# Altium footprint library TC65i.PcbLib: 1 footprints
Each footprint in its own frame and in the unit in brackets; x right, y up, seen from the top. Pads: shape width x height; smd on the part's side, far side on the other; paste and mask are expansions set on the pad; w line width, h text height; cw(c..) or ccw(c..) is an arc to the next point about the centre after c.
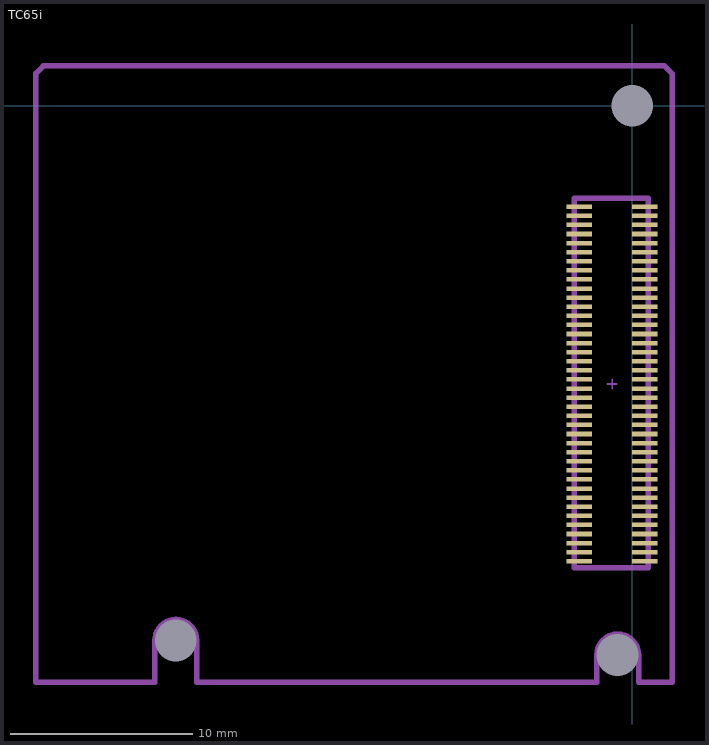
[diagram p0: the footprint, top view; thin cyan lines are the x and y axes]

## TC65i [mm]
pads (84):
  round 0 hole 2.3 unplated: 0(0,0) 1(-25.1,-29.4) 1(-0.8,-30.2)
  rect 1.4x0.25 smd: 1(-2.9,-25.05) 2(-2.9,-24.55) 3(-2.9,-24.05) 4(-2.9,-23.55) 5(-2.9,-23.05) 6(-2.9,-22.55) 7(-2.9,-22.05) 8(-2.9,-21.55) 9(-2.9,-21.05) 10(-2.9,-20.55) 11(-2.9,-20.05) 12(-2.9,-19.55) 13(-2.9,-19.05) 14(-2.9,-18.55) 15(-2.9,-18.05) 16(-2.9,-17.55) 17(-2.9,-17.05) 18(-2.9,-16.55) 19(-2.9,-16.05) 20(-2.9,-15.55) 21(-2.9,-15.05) 22(-2.9,-14.55) 23(-2.9,-14.05) 24(-2.9,-13.55) 25(-2.9,-13.05) 26(-2.9,-12.55) 27(-2.9,-12.05) 28(-2.9,-11.55) 29(-2.9,-11.05) 30(-2.9,-10.55) 31(-2.9,-10.05) 32(-2.9,-9.55) 33(-2.9,-9.05) 34(-2.9,-8.55) 35(-2.9,-8.05) 36(-2.9,-7.55) 37(-2.9,-7.05) 38(-2.9,-6.55) 39(-2.9,-6.05) 40(-2.9,-5.55) 41(0.7,-5.55) 42(0.7,-6.05) 43(0.7,-6.55) 44(0.7,-7.05) 45(0.7,-7.55) 46(0.7,-8.05) 47(0.7,-8.55) 48(0.7,-9.05) 49(0.7,-9.55) 50(0.7,-10.05) 51(0.7,-10.55) 52(0.7,-11.05) 53(0.7,-11.55) 54(0.7,-12.05) 55(0.7,-12.55) 56(0.7,-13.05) 57(0.7,-13.55) 58(0.7,-14.05) 59(0.7,-14.55) 60(0.7,-15.05) 61(0.7,-15.55) 62(0.7,-16.05) 63(0.7,-16.55) 64(0.7,-17.05) 65(0.7,-17.55) 66(0.7,-18.05) 67(0.7,-18.55) 68(0.7,-19.05) 69(0.7,-19.55) 70(0.7,-20.05) 71(0.7,-20.55) 72(0.7,-21.05) 73(0.7,-21.55) 74(0.7,-22.05) 75(0.7,-22.55) 76(0.7,-23.05) 77(0.7,-23.55) 78(0.7,-24.05) 79(0.7,-24.55) 80(0.7,-25.05) 80(0.7,-25.05)
Mechanical 13:
  lines w0.3: -32.8,-31.7 -32.8,1.785 -32.385,2.2 1.778,2.2 2.2,1.778 2.2,-31.7 0.35,-31.7 0.35,-30.2 ccw(c-0.8,-30.2) -1.95,-30.2 -1.95,-31.7 -23.95,-31.7 -23.95,-29.4 ccw(c-25.1,-29.4) -26.25,-29.4 -26.25,-31.7 -32.8,-31.7 ; -3.175,-25.4 -3.175,-5.08 0.889,-5.08 0.889,-25.4 -3.175,-25.4
  text ".Designator" at 5.123,-18.729 h2.5
Mechanical 15:
  lines w0.1: -1.354,-15.3 -0.846,-15.3 ; -1.1,-15.554 -1.1,-15.046
3D body: height 2, standoff 0, extent -3.174,-25.399 0.888,-5.081
3D body: height 3, standoff 2, extent -32.801,-31.701 2.201,2.201